# Altium integrated library Renesas Microprocessor SuperH.IntLib: 433 symbols (part 13 of 62)
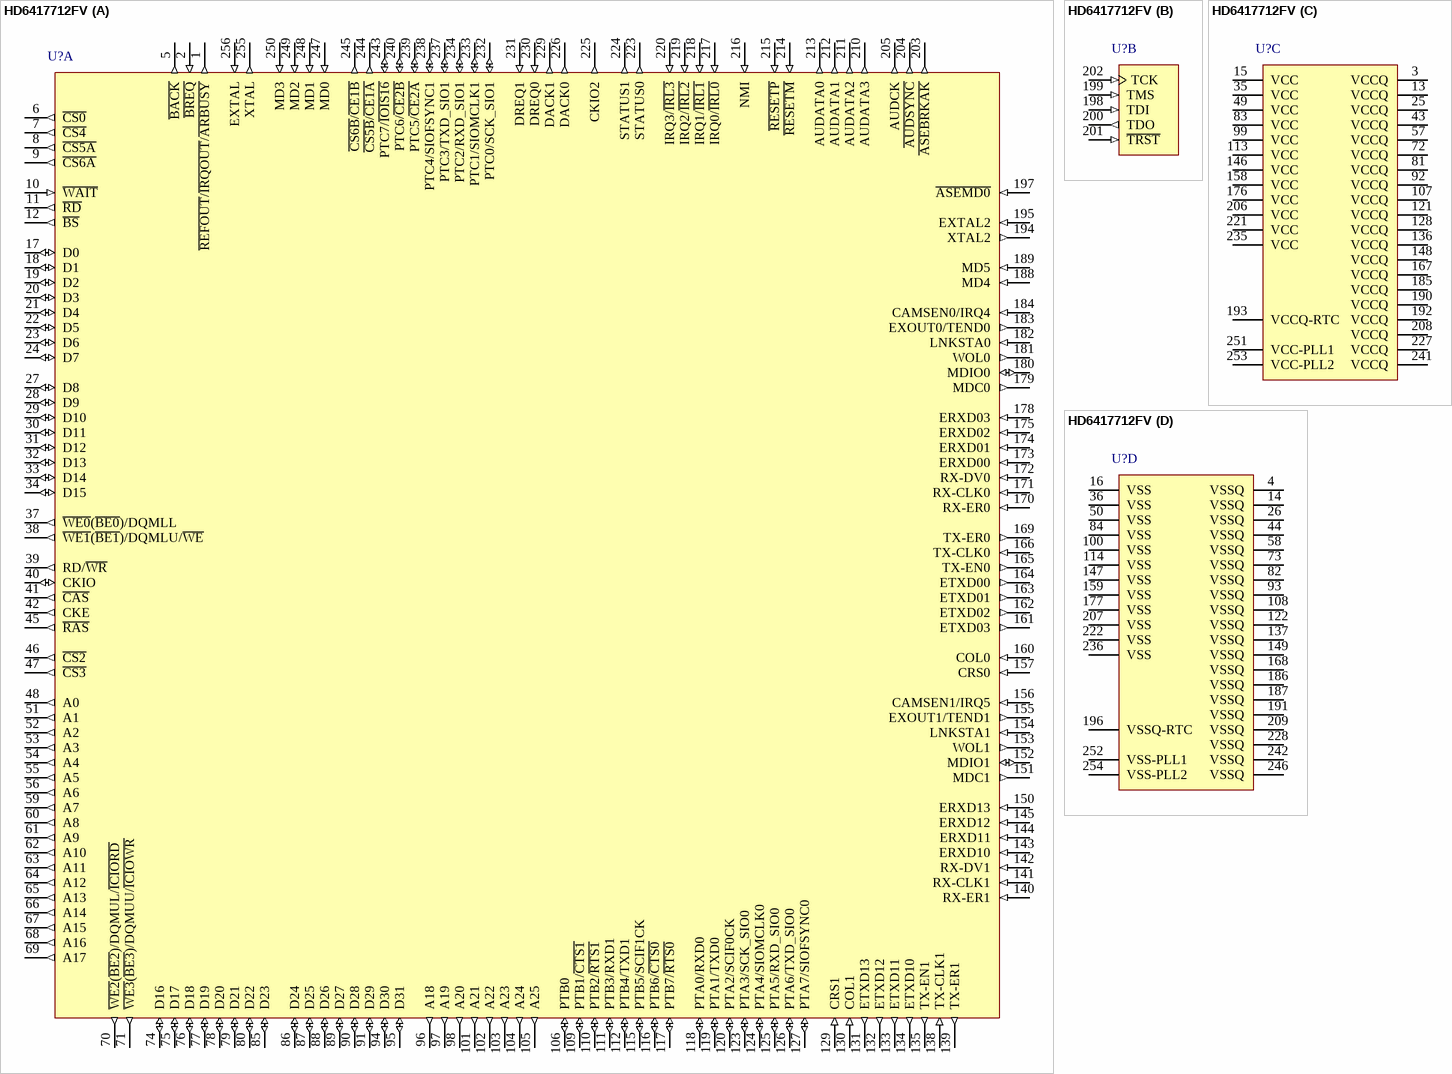
[diagram p288: symbol HD6417712FV]

## HD6417712FV
designator U?
32-Bit RISC Microcomputer, SH-Ether Series, SH3-DSP core, 200MHz, 16K RAM, 256-pin HQFP (Pb-Free), -20 to 75°C; Published: 28-Aug-2009; DatasheetVersion: Rev.1.00, Dec-2005; PackageVersion: Sep-2005; PackageReference: PRQP0256LA-B; Publisher: Altium Limited; PackageDescription: 256-Pin Plastic Quad Flat Pack, 28 x 28 x 3.2 mm Body, 0.4 mm Pitch; Supplier 1: Digi-Key; Supplier Part Number 1: HD6417712FV-ND; Code_JEITA: P-HQFP256-28x28-0.40; ComponentLink1Description: Manufacturer Link; ComponentLink1URL: http://www.renesas.com/fmwk.jsp?cnt=sh7710_root.jsp&fp=/products/mpumcu/superh_family/shether_series/sh7710_group/; ComponentLink2Description: Datasheet; ComponentLink2URL: http://documentation.renesas.com/eng/products/mpumcu/rej09b0269_sh7712hm.pdf; ComponentLink3Description: Packaging Specification; ComponentLink3URL: http://sg.renesas.com/media/products/common_info/package/pdf/ic/code/prqp0256la_b.pdf
footprint PRQP0256LA-B_N (Shrink QFP, 256-Leads, Body 28x28mm, Pitch 0.4mm, IPC Medium Density)
footprint PRQP0256LA-B_L (Shrink QFP, 256-Leads, Body 28x28mm, Pitch 0.4mm, IPC High Density)
footprint PRQP0256LA-B_M (Shrink QFP, 256-Leads, Body 28x28mm, Pitch 0.4mm, IPC Low Density)
part A pins: 1 ~{REFOUT}/~{IRQOUT}/~{ARBUSY} (out) "Bus release request output", 2 ~{BREQ} (in) "Bus request", 5 ~{BACK} (out) "Bus acknowledge", 6 ~{CS0} (out) "Chip select 0", 7 ~{CS4} (out) "Chip select 4", 8 ~{CS5A} (out) "Chip select 5 A", 9 ~{CS6A} (out) "Chip select 6 A", 10 ~{WAIT} (in) "Hardware wait request", 11 ~{RD} (out) "Read strobe", 12 ~{BS} (out) "Bus cycle start signal", 17 D0 (io) "Data bus", 18 D1 (io) "Data bus", 19 D2 (io) "Data bus", 20 D3 (io) "Data bus", 21 D4 (io) "Data bus", 22 D5 (io) "Data bus", 23 D6 (io) "Data bus", 24 D7 (io) "Data bus", 27 D8 (io) "Data bus", 28 D9 (io) "Data bus", 29 D10 (io) "Data bus", 30 D11 (io) "Data bus", 31 D12 (io) "Data bus", 32 D13 (io) "Data bus", 33 D14 (io) "Data bus", 34 D15 (io) "Data bus", 37 ~{WE0}(~{BE0})/DQMLL (out) "D7 to D0-select signal/DQM (SDRAM)", 38 ~{WE1}(~{BE1})/DQMLU/~{WE} (out) "D15 to D8-select signal/DQM (SDRAM)/PCMCIA write cycle strobe", 39 RD/~{WR} (out) "Read/write", 40 CKIO (io) "System clock I/O", 41 ~{CAS} (out) "CAS (SDRAM)", 42 CKE (out) "CK enable (SDRAM)", 45 ~{RAS} (out) "RAS (SDRAM)", 46 ~{CS2} (out) "Chip select 2", 47 ~{CS3} (out) "Chip select 3", 48 A0 (out) "Address bus", 51 A1 (out) "Address bus", 52 A2 (out) "Address bus", 53 A3 (out) "Address bus", 54 A4 (out) "Address bus", 55 A5 (out) "Address bus", 56 A6 (out) "Address bus", 59 A7 (out) "Address bus", 60 A8 (out) "Address bus", 61 A9 (out) "Address bus", 62 A10 (out) "Address bus", 63 A11 (out) "Address bus", 64 A12 (out) "Address bus", 65 A13 (out) "Address bus", 66 A14 (out) "Address bus", 67 A15 (out) "Address bus", 68 A16 (out) "Address bus", 69 A17 (out) "Address bus", 70 ~{WE2}(~{BE2})/DQMUL/~{ICIORD} (out) "D23 to D16-select signal/DQM (SDRAM)/PCMCIA I/O read", 71 ~{WE3}(~{BE3})/DQMUU/~{ICIOWR} (out) "D31 to D24-select signal/DQM (SDRAM)/PCMCIA I/O write", 74 D16 (io) "Data bus", 75 D17 (io) "Data bus", 76 D18 (io) "Data bus", 77 D19 (io) "Data bus", 78 D20 (io) "Data bus", 79 D21 (io) "Data bus", 80 D22 (io) "Data bus", 85 D23 (io) "Data bus", 86 D24 (io) "Data bus", 87 D25 (io) "Data bus", 88 D26 (io) "Data bus", 89 D27 (io) "Data bus", 90 D28 (io) "Data bus", 91 D29 (io) "Data bus", 94 D30 (io) "Data bus", 95 D31 (io) "Data bus", 96 A18 (out) "Address bus", 97 A19 (out) "Address bus", 98 A20 (out) "Address bus", 101 A21 (out) "Address bus", 102 A22 (out) "Address bus", 103 A23 (out) "Address bus", 104 A24 (out) "Address bus", 105 A25 (out) "Address bus", 106 PTB0 (io) "I/O port B", 109 PTB1/~{CTS1} (io) "I/O port B/SCIF1 transmit clear", 110 PTB2/~{RTS1} (io) "I/O port B/SCIF1 transmit request", 111 PTB3/RXD1 (io) "I/O port B/SCIF1 receive data", 112 PTB4/TXD1 (io) "I/O port B/SCIF1 transmit data", 115 PTB5/SCIF1CK (io) "I/O port B/SCIF1 serial clock", 116 PTB6/~{CTS0} (io) "I/O port B/SCIF0 transmit clear", 117 PTB7/~{RTS0} (io) "I/O port B/SCIF0 transmit request", 118 PTA0/RXD0 (io) "I/O port A/SCIF0 receive data", 119 PTA1/TXD0 (io) "I/O port A/SCIF0 transmit data", 120 PTA2/SCIF0CK (io) "I/O port A/SCIF0 serial clock", 123 PTA3/SCK_SIO0 (io) "I/O port A/SIOF0 communication clock", 124 PTA4/SIOMCLK0 (io) "I/O port A/SIOF0 clock input", 125 PTA5/RXD_SIO0 (io) "I/O port A/SIOF0 receive data", 126 PTA6/TXD_SIO0 (io) "I/O port A/SIOF0 transmit data", 127 PTA7/SIOFSYNC0 (io) "I/O port A/SIOF0 frame sync", 129 CRS1 (in) "MAC1 carrier detection", 130 COL1 (in) "MAC1 collision detection", 131 ETXD13 (out) "MAC1 transmit data 3", 132 ETXD12 (out) "MAC1 transmit data 2", 133 ETXD11 (out) "MAC1 transmit data 1", 134 ETXD10 (out) "MAC1 transmit data 0", 135 TX-EN1 (out) "MAC1 transmit enable", 138 TX-CLK1 (in) "MAC1 transmit clock", 139 TX-ER1 (out) "MAC1 transmit error", 140 RX-ER1 (in) "MAC1 receive error", 141 RX-CLK1 (in) "MAC1 receive clock", 142 RX-DV1 (in) "MAC1 receive data valid", 143 ERXD10 (in) "MAC1 receive data 0", 144 ERXD11 (in) "MAC1 receive data 1", 145 ERXD12 (in) "MAC1 receive data 2", 150 ERXD13 (in) "MAC1 receive data 3", 151 MDC1 (out) "MAC1 management data clock", 152 MDIO1 (io) "MAC1 management data I/O", 153 WOL1 (out) "MAC1 Wake-On-LAN", 154 LNKSTA1 (in) "MAC1 link status", 155 EXOUT1/TEND1 (out) "MAC1 general-purpose external output/DMA transfer end notification 1", 156 CAMSEN1/IRQ5 (in) "MAC1 CAM input/external interrupt request", 157 CRS0 (in) "MAC0 carrier detection", 160 COL0 (in) "MAC0 collision detection", 161 ETXD03 (out) "MAC0 transmit data 3", 162 ETXD02 (out) "MAC0 transmit data 2", 163 ETXD01 (out) "MAC0 transmit data 1", 164 ETXD00 (out) "MAC0 transmit data 0", 165 TX-EN0 (out) "MAC0 transmit enable", 166 TX-CLK0 (in) "MAC0 transmit clock", 169 TX-ER0 (out) "MAC0 transmit error", 170 RX-ER0 (in) "MAC0 receive error", 171 RX-CLK0 (in) "MAC0 receive clock", 172 RX-DV0 (in) "MAC0 receive data valid", 173 ERXD00 (in) "MAC0 receive data 0", 174 ERXD01 (in) "MAC0 receive data 1", 175 ERXD02 (in) "MAC0 receive data 2", 178 ERXD03 (in) "MAC0 receive data 3", 179 MDC0 (out) "MAC0 management data clock", 180 MDIO0 (io) "MAC0 management data I/O", 181 WOL0 (out) "MAC0 Wake-On-LAN", 182 LNKSTA0 (in) "MAC0 link status", 183 EXOUT0/TEND0 (out) "MAC0 general-purpose external output/DMA transfer end notification 0", 184 CAMSEN0/IRQ4 (in) "MAC0 CAM input/external interrupt request", 188 MD4 (in) "Specifies area 0 bus width", 189 MD5 (in) "Endian select", 194 XTAL2 (out) "On-chip RTC crystal oscillator pin", 195 EXTAL2 (in) "On-chip RTC crystal oscillator pin", 197 ~{ASEMD0} (in) "ASE mode", 203 ~{ASEBRKAK} (out) "ASE break acknowledge", 204 ~{AUDSYNC} (out) "AUD synchronous", 205 AUDCK (out) "AUD clock", 210 AUDATA3 (out) "AUD data", 211 AUDATA2 (out) "AUD data", 212 AUDATA1 (out) "AUD data", 213 AUDATA0 (out) "AUD data", 214 ~{RESETM} (in) "Manual reset request", 215 ~{RESETP} (in) "Power-on reset request", 216 NMI (in) "Non-maskable interrupt request", 217 IRQ0/~{IRL0} (in) "External interrupt request", 218 IRQ1/~{IRL1} (in) "External interrupt request", 219 IRQ2/~{IRL2} (in) "External interrupt request", 220 IRQ3/~{IRL3} (in) "External interrupt request", 223 STATUS0 (out) "Processor status", 224 STATUS1 (out) "Processor status", 225 CKIO2 (out) "System clock output", 226 DACK0 (out) "DMA acknowledge 0", 229 DACK1 (out) "DMA acknowledge 1", 230 DREQ0 (in) "DMA request 0", 231 DREQ1 (in) "DMA request 1", 232 PTC0/SCK_SIO1 (io) "I/O port C/SIOF1 communication clock", 233 PTC1/SIOMCLK1 (io) "I/O port C/SIOF1 clock input", 234 PTC2/RXD_SIO1 (io) "I/O port C/SIOF1 receive data", 237 PTC3/TXD_SIO1 (io) "I/O port C/SIOF1 transmit data", 238 PTC4/SIOFSYNC1 (io) "I/O port C/SIOF1 frame sync", 239 PTC5/~{CE2A} (io) "I/O port C/area 5 PCMCIA card enable", 240 PTC6/~{CE2B} (io) "I/O port C/area 6 PCMCIA card enable", 243 PTC7/~{IOIS16} (io) "I/O port C/PCMCIA 16-bit I/O select", 244 ~{CS5B}/~{CE1A} (out) "Chip select 5B/area 5 PCMCIA card enable", 245 ~{CS6B}/~{CE1B} (out) "Chip select 6B/area 6 PCMCIA card enable", 247 MD0 (in) "Clock mode select", 248 MD1 (in) "Clock mode select", 249 MD2 (in) "Clock mode select", 250 MD3 (in) "Area 0 bus width", 255 XTAL (out) "Clock oscillator pin", 256 EXTAL (in) "External clock/crystal oscillator pin"
part B pins: 198 TDI (in) "Test data input", 199 TMS (in) "Test mode select", 200 TDO (out) "Test data output", 201 ~{TRST} (in) "Test reset", 202 TCK (in) "Test clock"
part C pins: 3 VCCQ (power) "I/O power supply (3.3V)", 13 VCCQ (power) "I/O power supply (3.3V)", 15 VCC (power) "Internal power supply (1.5V)", 25 VCCQ (power) "I/O power supply (3.3V)", 35 VCC (power) "Internal power supply (1.5V)", 43 VCCQ (power) "I/O power supply (3.3V)", 49 VCC (power) "Internal power supply (1.5V)", 57 VCCQ (power) "I/O power supply (3.3V)", 72 VCCQ (power) "I/O power supply (3.3V)", 81 VCCQ (power) "I/O power supply (3.3V)", 83 VCC (power) "Internal power supply (1.5V)", 92 VCCQ (power) "I/O power supply (3.3V)", 99 VCC (power) "Internal power supply (1.5V)", 107 VCCQ (power) "I/O power supply (3.3V)", 113 VCC (power) "Internal power supply (1.5V)", 121 VCCQ (power) "I/O power supply (3.3V)", 128 VCCQ (power) "I/O power supply (3.3V)", 136 VCCQ (power) "I/O power supply (3.3V)", 146 VCC (power) "Internal power supply (1.5V)", 148 VCCQ (power) "I/O power supply (3.3V)", 158 VCC (power) "Internal power supply (1.5V)", 167 VCCQ (power) "I/O power supply (3.3V)", 176 VCC (power) "Internal power supply (1.5V)", 185 VCCQ (power) "I/O power supply (3.3V)", 190 VCCQ (power) "I/O power supply (3.3V)", 192 VCCQ (power) "I/O power supply (3.3V)", 193 VCCQ-RTC (power) "RTC oscillator power supply (3.3V)", 206 VCC (power) "Internal power supply (1.5V)", 208 VCCQ (power) "power supply (3.3V)", 221 VCC (power) "Internal power supply (1.5V)", 227 VCCQ (power) "I/O power supply (3.3V)", 235 VCC (power) "Internal power supply (1.5V)", 241 VCCQ (power) "I/O power supply (3.3V)", 251 VCC-PLL1 (power) "PLL1 power supply (1.5V)", 253 VCC-PLL2 (power) "PLL2 power supply (1.5V)"
part D pins: 4 VSSQ (power) "I/O power supply (0V)", 14 VSSQ (power) "I/O power supply (0V)", 16 VSS (power) "Internal power supply (0V)", 26 VSSQ (power) "I/O power supply (0V)", 36 VSS (power) "Internal power supply (0V)", 44 VSSQ (power) "I/O power supply (0V)", 50 VSS (power) "Internal power supply (0V)", 58 VSSQ (power) "I/O power supply (0V)", 73 VSSQ (power) "I/O power supply (0V)", 82 VSSQ (power) "I/O power supply (0V)", 84 VSS (power) "Internal power supply (0V)", 93 VSSQ (power) "I/O power supply (0V)", 100 VSS (power) "Internal power supply (0V)", 108 VSSQ (power) "I/O power supply (0V)", 114 VSS (power) "Internal power supply (0V)", 122 VSSQ (power) "I/O power supply (0V)", 137 VSSQ (power) "I/O power supply (0V)", 147 VSS (power) "Internal power supply (0V)", 149 VSSQ (power) "I/O power supply (0V)", 159 VSS (power) "Internal power supply (0V)", 168 VSSQ (power) "I/O power supply (0V)", 177 VSS (power) "Internal power supply (0V)", 186 VSSQ (power) "I/O power supply (0V)", 187 VSSQ (power) "I/O power supply (0V)", 191 VSSQ (power) "I/O power supply (0V)", 196 VSSQ-RTC (power) "RTC oscillator power supply (0V)", 207 VSS (power) "Internal power supply (0V)", 209 VSSQ (power) "power supply (0V)", 222 VSS (power) "Internal power supply (0V)", 228 VSSQ (power) "I/O power supply (0V)", 236 VSS (power) "Internal power supply (0V)", 242 VSSQ (power) "I/O power supply (0V)", 246 VSSQ (power) "I/O power supply (0V)", 252 VSS-PLL1 (power) "PLL1 power supply (0V)", 254 VSS-PLL2 (power) "PLL2 power supply (0V)"

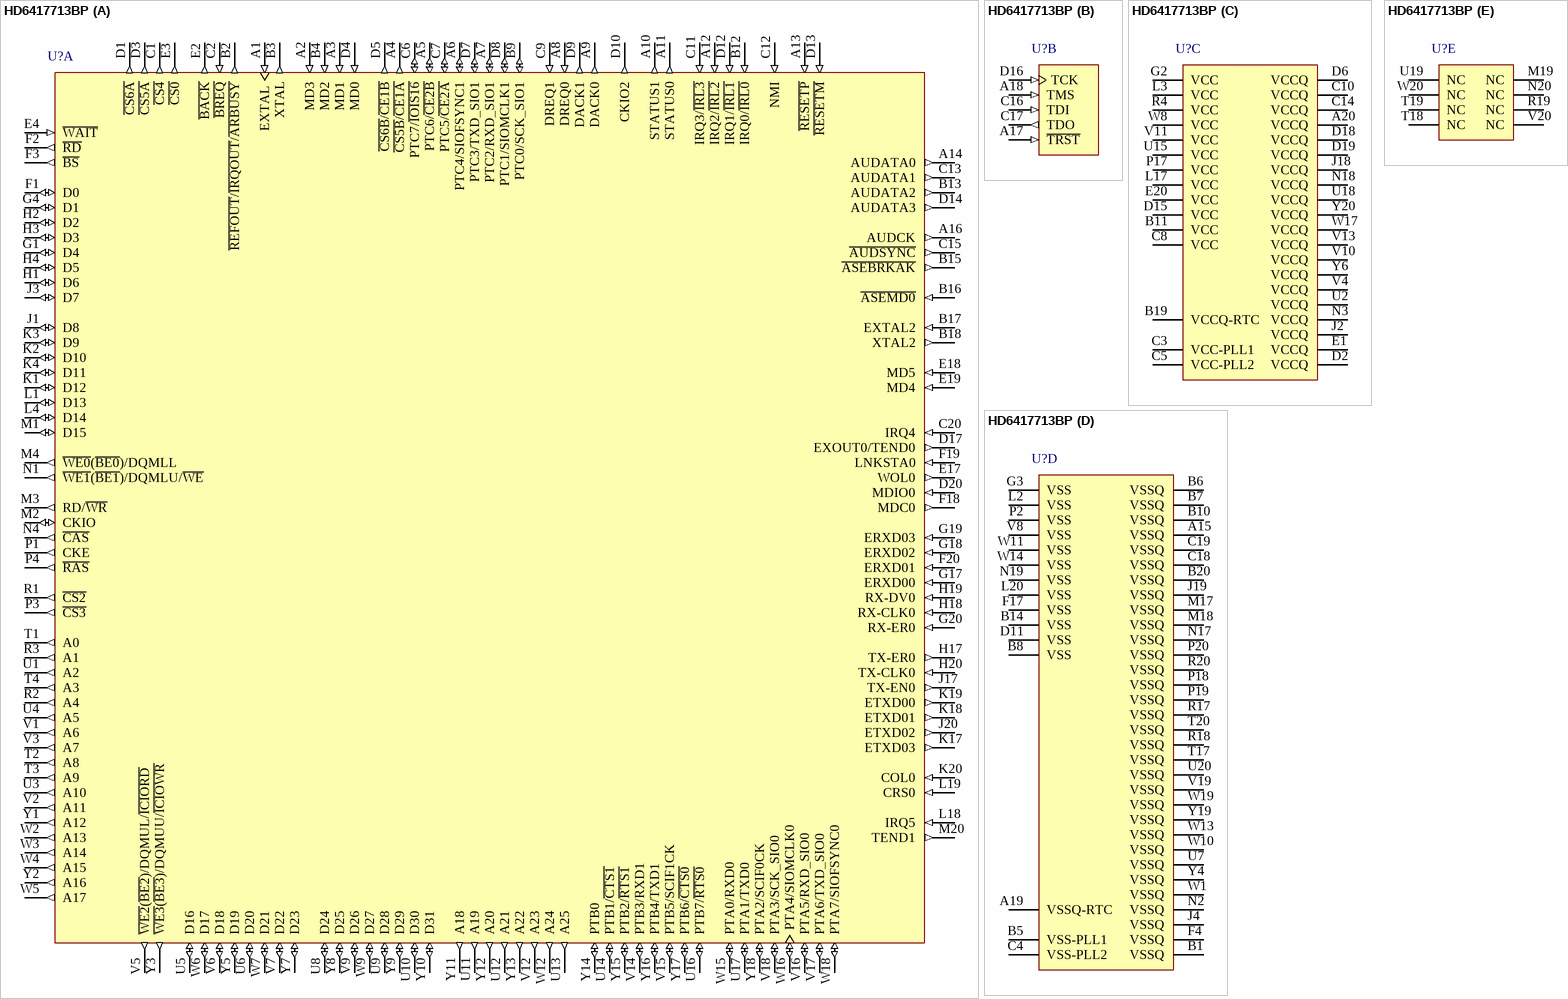
[diagram p47: symbol HD6417713BP]

## HD6417713BP
designator U?
32-Bit RISC Microcomputer, SH-Ether Series, SH3-DSP core, 200MHz, 16K RAM, 256-pin CSP, -20 to 75°C; Published: 28-Aug-2009; DatasheetVersion: Rev.1.50, Aug-2006; PackageVersion: Sep-2008; PackageReference: PLBG0256GA-A; Publisher: Altium Limited; PackageDescription: 256-Ball Plastic Low Profile Fine-Pitch BGA, 17 x 17 mm Body, 0.8 mm Pitch; Code_JEITA: P-LFBGA256-17x17-0.80; ComponentLink1Description: Manufacturer Link; ComponentLink1URL: http://www.renesas.com/fmwk.jsp?cnt=sh7710_root.jsp&fp=/products/mpumcu/superh_family/shether_series/sh7710_group/; ComponentLink2Description: Datasheet; ComponentLink2URL: http://documentation.renesas.com/eng/products/mpumcu/rej09b0288_sh7713hm.pdf; ComponentLink3Description: Packaging Specification; ComponentLink3URL: http://sg.renesas.com/media/products/common_info/package/pdf/ic/code/plbg0256ga_a.pdf
footprint PLBG0256GA-A (BGA, 256-Leads, Body 17x17mm, Pitch 0.8mm)
part A pins: A1 EXTAL (in) "External clock/crystal oscillator pin", A2 MD3 (in) "Area 0 bus width", A3 MD1 (in) "Clock mode select", A4 ~{CS5B}/~{CE1A} (out) "Chip select 5B/area 5 PCMCIA card enable", A5 PTC6/~{CE2B} (io) "I/O port C/area 6 PCMCIA card enable", A6 PTC4/SIOFSYNC1 (io) "I/O port C/SIOF1 frame sync", A7 PTC2/RXD_SIO1 (io) "I/O port C/SIOF1 receive data", A8 DREQ0 (in) "DMA request 0", A9 DACK0 (out) "DMA acknowledge 0", A10 STATUS1 (out) "Processor status", A11 STATUS0 (out) "Processor status", A12 IRQ2/~{IRL2} (in) "External interrupt request", A13 ~{RESETP} (in) "Power-on reset request", A14 AUDATA0 (out) "AUD data", A16 AUDCK (out) "AUD clock", B2 ~{REFOUT}/~{IRQOUT}/~{ARBUSY} (out) "Bus release request output", B3 XTAL (out) "Clock oscillator pin", B4 MD2 (in) "Clock mode select", B9 PTC0/SCK_SIO1 (io) "I/O port C/SIOF1 communication clock", B12 IRQ0/~{IRL0} (in) "External interrupt request", B13 AUDATA2 (out) "AUD data", B15 ~{ASEBRKAK} (out) "ASE break acknowledge", B16 ~{ASEMD0} (in) "ASE mode", B17 EXTAL2 (in) "On-chip RTC crystal oscillator pin", B18 XTAL2 (out) "On-chip RTC crystal oscillator pin", C1 ~{CS4} (out) "Chip select 4", C2 ~{BREQ} (in) "Bus request", C6 PTC7/~{IOIS16} (io) "I/O port C/PCMCIA 16-bit I/O select", C7 PTC5/~{CE2A} (io) "I/O port C/area 5 PCMCIA card enable", C9 DREQ1 (in) "DMA request 1", C11 IRQ3/~{IRL3} (in) "External interrupt request", C12 NMI (in) "Non-maskable interrupt request", C13 AUDATA1 (out) "AUD data", C15 ~{AUDSYNC} (out) "AUD synchronous", C20 IRQ4 (in) "External interrupt request", D1 ~{CS6A} (out) "Chip select 6 A", D3 ~{CS5A} (out) "Chip select 5 A", D4 MD0 (in) "Clock mode select", D5 ~{CS6B}/~{CE1B} (out) "Chip select 6B/area 6 PCMCIA card enable", D7 PTC3/TXD_SIO1 (io) "I/O port C/SIOF1 transmit data", D8 PTC1/SIOMCLK1 (io) "I/O port C/SIOF1 clock input", D9 DACK1 (out) "DMA acknowledge 1", D10 CKIO2 (out) "System clock output", D12 IRQ1/~{IRL1} (in) "External interrupt request", D13 ~{RESETM} (in) "Manual reset request", D14 AUDATA3 (out) "AUD data", D17 EXOUT0/TEND0 (out) "MAC general-purpose external output/DMA transfer end notification 0", D20 MDIO0 (in) "MAC management data I/O", E2 ~{BACK} (out) "Bus acknowledge", E3 ~{CS0} (out) "Chip select 0", E4 ~{WAIT} (in) "Hardware wait request", E17 WOL0 (out) "MAC Wake-On-LAN", E18 MD5 (in) "Endian select", E19 MD4 (in) "Specifies area 0 bus width", F1 D0 (io) "Data bus", F2 ~{RD} (out) "Read strobe", F3 ~{BS} (out) "Bus cycle start signal", F18 MDC0 (out) "MAC management data clock", F19 LNKSTA0 (in) "MAC link status", F20 ERXD01 (in) "MAC receive data 1", G1 D4 (io) "Data bus", G4 D1 (io) "Data bus", G17 ERXD00 (in) "MAC receive data 0", G18 ERXD02 (in) "MAC receive data 2", G19 ERXD03 (in) "MAC receive data 3", G20 RX-ER0 (in) "MAC receive error", H1 D6 (io) "Data bus", H2 D2 (io) "Data bus", H3 D3 (io) "Data bus", H4 D5 (io) "Data bus", H17 TX-ER0 (out) "MAC transmit error", H18 RX-CLK0 (in) "MAC receive clock", H19 RX-DV0 (in) "MAC receive data valid", H20 TX-CLK0 (in) "MAC transmit clock", J1 D8 (io) "Data bus", J3 D7 (io) "Data bus", J17 TX-EN0 (out) "MAC transmit enable", J20 ETXD02 (out) "MAC transmit data 2", K1 D12 (io) "Data bus", K2 D10 (io) "Data bus", K3 D9 (io) "Data bus", K4 D11 (io) "Data bus", K17 ETXD03 (out) "MAC transmit data 3", K18 ETXD01 (out) "MAC transmit data 1", K19 ETXD00 (out) "MAC transmit data 0", K20 COL0 (in) "MAC collision detection", L1 D13 (io) "Data bus", L4 D14 (io) "Data bus", L18 IRQ5 (in) "External interrupt request", L19 CRS0 (in) "MAC carrier detection", M1 D15 (io) "Data bus", M2 CKIO (io) "System clock I/O", M3 RD/~{WR} (out) "Read/write", M4 ~{WE0}(~{BE0})/DQMLL (out) "D7 to D0-select signal/DQM (SDRAM)", M20 TEND1 (out) "DMA transfer end notification 1", N1 ~{WE1}(~{BE1})/DQMLU/~{WE} (out) "D15 to D8-select signal/DQM (SDRAM)/PCMCIA write cycle strobe", N4 ~{CAS} (out) "CAS (SDRAM)", P1 CKE (out) "CK enable (SDRAM)", P3 ~{CS3} (out) "Chip select 3", P4 ~{RAS} (out) "RAS (SDRAM)", R1 ~{CS2} (out) "Chip select 2", R2 A4 (out) "Address bus", R3 A1 (out) "Address bus", T1 A0 (out) "Address bus", T2 A8 (out) "Address bus", T3 A9 (out) "Address bus", T4 A3 (out) "Address bus", U1 A2 (out) "Address bus", U3 A10 (out) "Address bus", U4 A5 (out) "Address bus", U5 D16 (io) "Data bus", U6 D20 (io) "Data bus", U8 D24 (io) "Data bus", U9 D28 (io) "Data bus", U10 D30 (io) "Data bus", U11 A19 (out) "Address bus", U12 A21 (out) "Address bus", U13 A25 (out) "Address bus", U14 PTB1/~{CTS1} (io) "I/O port B/SCIF1 transmit clear", U16 PTB7/~{RTS0} (io) "I/O port B/SCIF0 transmit request", U17 PTA1/TXD0 (io) "I/O port A/SCIF0 transmit data", V1 A6 (out) "Address bus", V2 A11 (out) "Address bus", V3 A7 (out) "Address bus", V5 ~{WE2}(~{BE2})/DQMUL/~{ICIORD} (out) "D23 to D16-select signal/DQM (SDRAM)/PCMCIA I/O read", V6 D18 (io) "Data bus", V7 D22 (io) "Data bus", V9 D26 (io) "Data bus", V12 A23 (out) "Address bus", V14 PTB3/RXD1 (io) "I/O port B/SCIF1 receive data", V15 PTB5/SCIF1CK (io) "I/O port B/SCIF1 serial clock", V16 PTA5/RXD_SIO0 (io) "I/O port A/SIOF0 receive data", V17 PTA6/TXD_SIO0 (io) "I/O port A/SIOF0 transmit data", V18 PTA3/SCK_SIO0 (io) "I/O port A/SIOF0 communication clock", W2 A13 (out) "Address bus", W3 A14 (out) "Address bus", W4 A15 (out) "Address bus", W5 A17 (out) "Address bus", W6 D17 (io) "Data bus", W7 D21 (io) "Data bus", W9 D27 (io) "Data bus", W12 A24 (out) "Address bus", W15 PTA0/RXD0 (io) "I/O port A/SCIF0 receive data", W16 PTA4/SIOMCLK0 (io) "I/O port A/SIOF0 clock input", W18 PTA7/SIOFSYNC0 (io) "I/O port A/SIOF0 frame sync", Y1 A12 (out) "Address bus", Y2 A16 (out) "Address bus", Y3 ~{WE3}(~{BE3})/DQMUU/~{ICIOWR} (out) "D31 to D24-select signal/DQM (SDRAM)/PCMCIA I/O write", Y5 D19 (io) "Data bus", Y7 D23 (io) "Data bus", Y8 D25 (io) "Data bus", Y9 D29 (io) "Data bus", Y10 D31 (io) "Data bus", Y11 A18 (out) "Address bus", Y12 A20 (out) "Address bus", Y13 A22 (out) "Address bus", Y14 PTB0 (io) "I/O port B", Y15 PTB2/~{RTS1} (io) "I/O port B/SCIF1 transmit request", Y16 PTB4/TXD1 (io) "I/O port B/SCIF1 transmit data", Y17 PTB6/~{CTS0} (io) "I/O port B/SCIF0 transmit clear", Y18 PTA2/SCIF0CK (io) "I/O port A/SCIF0 serial clock"
part B pins: A17 ~{TRST} (in) "Test reset", A18 TMS (in) "Test mode select", C16 TDI (in) "Test data input", C17 TDO (out) "Test data output", D16 TCK (in) "Test clock"
part C pins: A20 VCCQ (power) "I/O power supply (3.3V)", B11 VCC (power) "Internal power supply (1.5V)", B19 VCCQ-RTC (power) "RTC oscillator power supply (3.3V)", C3 VCC-PLL1 (power) "PLL1 power supply (1.5V)", C5 VCC-PLL2 (power) "PLL2 power supply (1.5V)", C8 VCC (power) "Internal power supply (1.5V)", C10 VCCQ (power) "I/O power supply (3.3V)", C14 VCCQ (power) "I/O power supply (3.3V)", D2 VCCQ (power) "I/O power supply (3.3V)", D6 VCCQ (power) "I/O power supply (3.3V)", D15 VCC (power) "Internal power supply (1.5V)", D18 VCCQ (power) "I/O power supply (3.3V)", D19 VCCQ (power) "I/O power supply (3.3V)", E1 VCCQ (power) "I/O power supply (3.3V)", E20 VCC (power) "Internal power supply (1.5V)", G2 VCC (power) "Internal power supply (1.5V)", J2 VCCQ (power) "I/O power supply (3.3V)", J18 VCCQ (power) "I/O power supply (3.3V)", L3 VCC (power) "Internal power supply (1.5V)", L17 VCC (power) "Internal power supply (1.5V)", N3 VCCQ (power) "I/O power supply (3.3V)", N18 VCCQ (power) "I/O power supply (3.3V)", P17 VCC (power) "Internal power supply (1.5V)", R4 VCC (power) "Internal power supply (1.5V)", U2 VCCQ (power) "I/O power supply (3.3V)", U15 VCC (power) "Internal power supply (1.5V)", U18 VCCQ (power) "I/O power supply (3.3V)", V4 VCCQ (power) "I/O power supply (3.3V)", V10 VCCQ (power) "I/O power supply (3.3V)", V11 VCC (power) "Internal power supply (1.5V)", V13 VCCQ (power) "I/O power supply (3.3V)", W8 VCC (power) "Internal power supply (1.5V)", W17 VCCQ (power) "I/O power supply (3.3V)", Y6 VCCQ (power) "I/O power supply (3.3V)", Y20 VCCQ (power) "I/O power supply (3.3V)"
part D pins: A15 VSSQ (power) "I/O power supply (0V)", A19 VSSQ-RTC (power) "RTC oscillator power supply (0V)", B1 VSSQ (power) "I/O power supply (0V)", B5 VSS-PLL1 (power) "PLL1 power supply (0V)", B6 VSSQ (power) "I/O power supply (0V)", B7 VSSQ (power) "I/O power supply (0V)", B8 VSS (power) "Internal power supply (0V)", B10 VSSQ (power) "I/O power supply (0V)", B14 VSS (power) "Internal power supply (0V)", B20 VSSQ (power) "I/O power supply (0V)", C4 VSS-PLL2 (power) "PLL2 power supply (0V)", C18 VSSQ (power) "I/O power supply (0V)", C19 VSSQ (power) "I/O power supply (0V)", D11 VSS (power) "Internal power supply (0V)", F4 VSSQ (power) "I/O power supply (0V)", F17 VSS (power) "Internal power supply (0V)", G3 VSS (power) "Internal power supply (0V)", J4 VSSQ (power) "I/O power supply (0V)", J19 VSSQ (power) "I/O power supply (0V)", L2 VSS (power) "Internal power supply (0V)", L20 VSS (power) "Internal power supply (0V)", M17 VSSQ (power) "I/O power supply (0V)", M18 VSSQ (power) "I/O power supply (0V)", N2 VSSQ (power) "I/O power supply (0V)", N17 VSSQ (power) "I/O power supply (0V)", N19 VSS (power) "Internal power supply (0V)", P2 VSS (power) "Internal power supply (0V)", P18 VSSQ (power) "I/O power supply (0V)", P19 VSSQ (power) "I/O power supply (0V)", P20 VSSQ (power) "I/O power supply (0V)", R17 VSSQ (power) "I/O power supply (0V)", R18 VSSQ (power) "I/O power supply (0V)", R20 VSSQ (power) "I/O power supply (0V)", T17 VSSQ (power) "I/O power supply (0V)", T20 VSSQ (power) "I/O power supply (0V)", U7 VSSQ (power) "I/O power supply (0V)", U20 VSSQ (power) "I/O power supply (0V)", V8 VSS (power) "Internal power supply (0V)", V19 VSSQ (power) "I/O power supply (0V)", W1 VSSQ (power) "I/O power supply (0V)", W10 VSSQ (power) "I/O power supply (0V)", W11 VSS (power) "Internal power supply (0V)", W13 VSSQ (power) "I/O power supply (0V)", W14 VSS (power) "Internal power supply (0V)", W19 VSSQ (power) "I/O power supply (0V)", Y4 VSSQ (power) "I/O power supply (0V)", Y19 VSSQ (power) "I/O power supply (0V)"
part E pins: M19 NC "Not Connected", N20 NC "Not Connected", R19 NC "Not Connected", T18 NC "Not Connected", T19 NC "Not Connected", U19 NC "Not Connected", V20 NC "Not Connected", W20 NC "Not Connected"

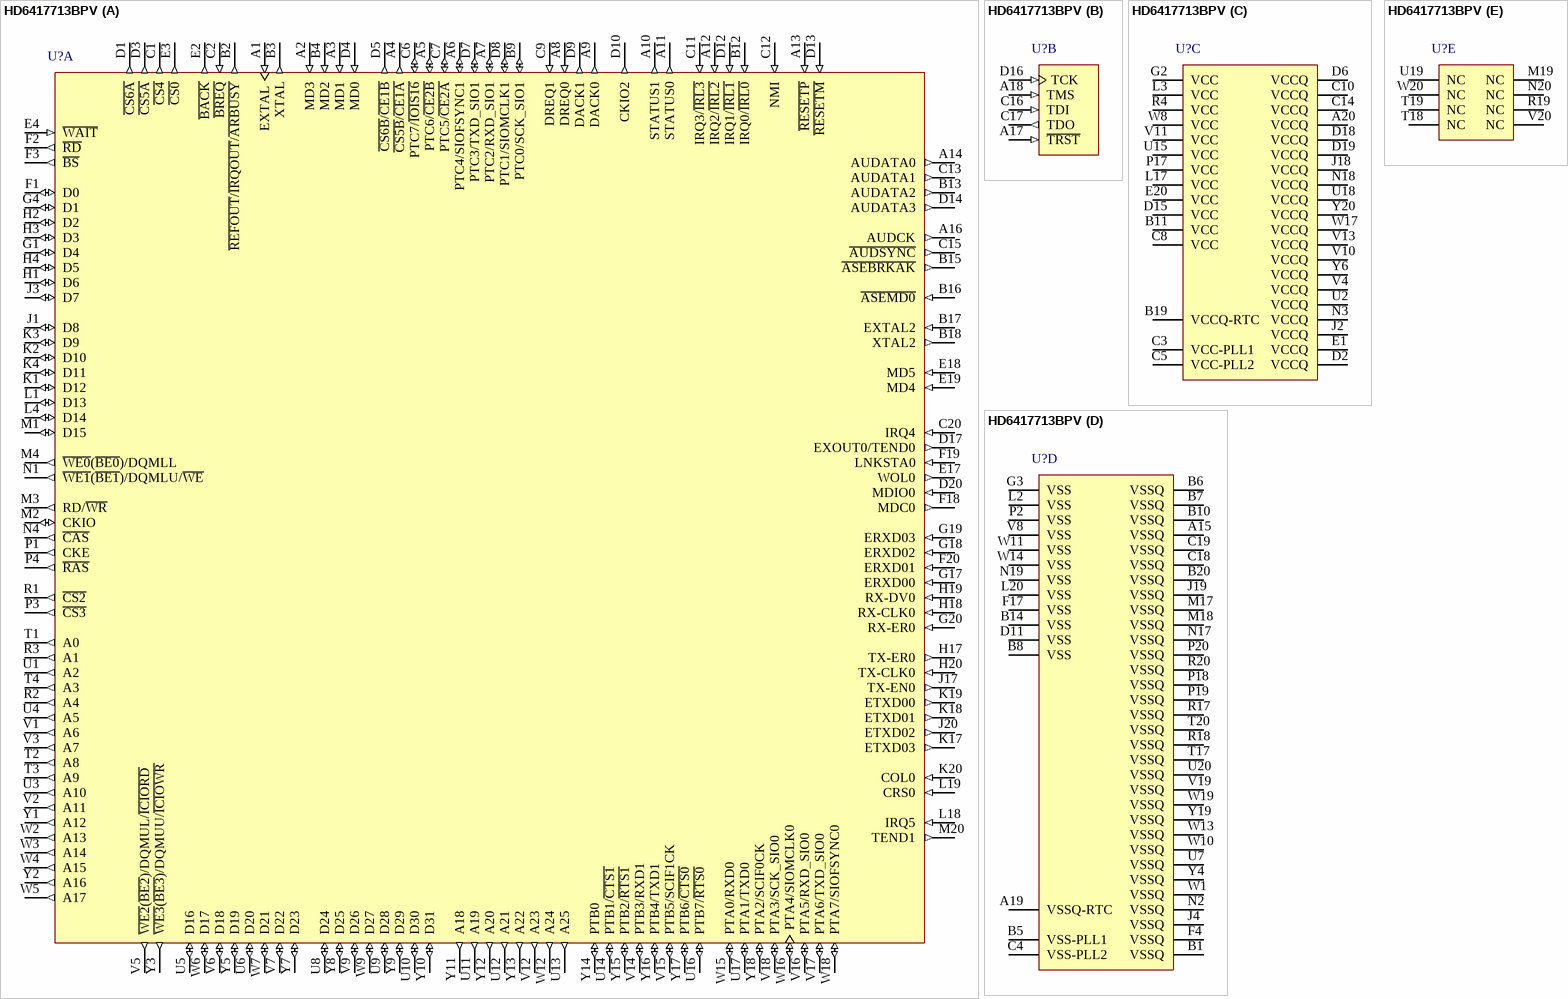
[diagram p48: symbol HD6417713BPV]

## HD6417713BPV
designator U?
32-Bit RISC Microcomputer, SH-Ether Series, SH3-DSP core, 200MHz, 16K RAM, 256-pin CSP (Pb-Free), -20 to 75°C; Published: 28-Aug-2009; DatasheetVersion: Rev.1.50, Aug-2006; PackageVersion: Sep-2008; PackageReference: PLBG0256GA-A; Publisher: Altium Limited; PackageDescription: 256-Ball Plastic Low Profile Fine-Pitch BGA, 17 x 17 mm Body, 0.8 mm Pitch; Code_JEITA: P-LFBGA256-17x17-0.80; ComponentLink1Description: Manufacturer Link; ComponentLink1URL: http://www.renesas.com/fmwk.jsp?cnt=sh7710_root.jsp&fp=/products/mpumcu/superh_family/shether_series/sh7710_group/; ComponentLink2Description: Datasheet; ComponentLink2URL: http://documentation.renesas.com/eng/products/mpumcu/rej09b0288_sh7713hm.pdf; ComponentLink3Description: Packaging Specification; ComponentLink3URL: http://sg.renesas.com/media/products/common_info/package/pdf/ic/code/plbg0256ga_a.pdf
footprint PLBG0256GA-A (BGA, 256-Leads, Body 17x17mm, Pitch 0.8mm)
part A pins: A1 EXTAL (in) "External clock/crystal oscillator pin", A2 MD3 (in) "Area 0 bus width", A3 MD1 (in) "Clock mode select", A4 ~{CS5B}/~{CE1A} (out) "Chip select 5B/area 5 PCMCIA card enable", A5 PTC6/~{CE2B} (io) "I/O port C/area 6 PCMCIA card enable", A6 PTC4/SIOFSYNC1 (io) "I/O port C/SIOF1 frame sync", A7 PTC2/RXD_SIO1 (io) "I/O port C/SIOF1 receive data", A8 DREQ0 (in) "DMA request 0", A9 DACK0 (out) "DMA acknowledge 0", A10 STATUS1 (out) "Processor status", A11 STATUS0 (out) "Processor status", A12 IRQ2/~{IRL2} (in) "External interrupt request", A13 ~{RESETP} (in) "Power-on reset request", A14 AUDATA0 (out) "AUD data", A16 AUDCK (out) "AUD clock", B2 ~{REFOUT}/~{IRQOUT}/~{ARBUSY} (out) "Bus release request output", B3 XTAL (out) "Clock oscillator pin", B4 MD2 (in) "Clock mode select", B9 PTC0/SCK_SIO1 (io) "I/O port C/SIOF1 communication clock", B12 IRQ0/~{IRL0} (in) "External interrupt request", B13 AUDATA2 (out) "AUD data", B15 ~{ASEBRKAK} (out) "ASE break acknowledge", B16 ~{ASEMD0} (in) "ASE mode", B17 EXTAL2 (in) "On-chip RTC crystal oscillator pin", B18 XTAL2 (out) "On-chip RTC crystal oscillator pin", C1 ~{CS4} (out) "Chip select 4", C2 ~{BREQ} (in) "Bus request", C6 PTC7/~{IOIS16} (io) "I/O port C/PCMCIA 16-bit I/O select", C7 PTC5/~{CE2A} (io) "I/O port C/area 5 PCMCIA card enable", C9 DREQ1 (in) "DMA request 1", C11 IRQ3/~{IRL3} (in) "External interrupt request", C12 NMI (in) "Non-maskable interrupt request", C13 AUDATA1 (out) "AUD data", C15 ~{AUDSYNC} (out) "AUD synchronous", C20 IRQ4 (in) "External interrupt request", D1 ~{CS6A} (out) "Chip select 6 A", D3 ~{CS5A} (out) "Chip select 5 A", D4 MD0 (in) "Clock mode select", D5 ~{CS6B}/~{CE1B} (out) "Chip select 6B/area 6 PCMCIA card enable", D7 PTC3/TXD_SIO1 (io) "I/O port C/SIOF1 transmit data", D8 PTC1/SIOMCLK1 (io) "I/O port C/SIOF1 clock input", D9 DACK1 (out) "DMA acknowledge 1", D10 CKIO2 (out) "System clock output", D12 IRQ1/~{IRL1} (in) "External interrupt request", D13 ~{RESETM} (in) "Manual reset request", D14 AUDATA3 (out) "AUD data", D17 EXOUT0/TEND0 (out) "MAC general-purpose external output/DMA transfer end notification 0", D20 MDIO0 (in) "MAC management data I/O", E2 ~{BACK} (out) "Bus acknowledge", E3 ~{CS0} (out) "Chip select 0", E4 ~{WAIT} (in) "Hardware wait request", E17 WOL0 (out) "MAC Wake-On-LAN", E18 MD5 (in) "Endian select", E19 MD4 (in) "Specifies area 0 bus width", F1 D0 (io) "Data bus", F2 ~{RD} (out) "Read strobe", F3 ~{BS} (out) "Bus cycle start signal", F18 MDC0 (out) "MAC management data clock", F19 LNKSTA0 (in) "MAC link status", F20 ERXD01 (in) "MAC receive data 1", G1 D4 (io) "Data bus", G4 D1 (io) "Data bus", G17 ERXD00 (in) "MAC receive data 0", G18 ERXD02 (in) "MAC receive data 2", G19 ERXD03 (in) "MAC receive data 3", G20 RX-ER0 (in) "MAC receive error", H1 D6 (io) "Data bus", H2 D2 (io) "Data bus", H3 D3 (io) "Data bus", H4 D5 (io) "Data bus", H17 TX-ER0 (out) "MAC transmit error", H18 RX-CLK0 (in) "MAC receive clock", H19 RX-DV0 (in) "MAC receive data valid", H20 TX-CLK0 (in) "MAC transmit clock", J1 D8 (io) "Data bus", J3 D7 (io) "Data bus", J17 TX-EN0 (out) "MAC transmit enable", J20 ETXD02 (out) "MAC transmit data 2", K1 D12 (io) "Data bus", K2 D10 (io) "Data bus", K3 D9 (io) "Data bus", K4 D11 (io) "Data bus", K17 ETXD03 (out) "MAC transmit data 3", K18 ETXD01 (out) "MAC transmit data 1", K19 ETXD00 (out) "MAC transmit data 0", K20 COL0 (in) "MAC collision detection", L1 D13 (io) "Data bus", L4 D14 (io) "Data bus", L18 IRQ5 (in) "External interrupt request", L19 CRS0 (in) "MAC carrier detection", M1 D15 (io) "Data bus", M2 CKIO (io) "System clock I/O", M3 RD/~{WR} (out) "Read/write", M4 ~{WE0}(~{BE0})/DQMLL (out) "D7 to D0-select signal/DQM (SDRAM)", M20 TEND1 (out) "DMA transfer end notification 1", N1 ~{WE1}(~{BE1})/DQMLU/~{WE} (out) "D15 to D8-select signal/DQM (SDRAM)/PCMCIA write cycle strobe", N4 ~{CAS} (out) "CAS (SDRAM)", P1 CKE (out) "CK enable (SDRAM)", P3 ~{CS3} (out) "Chip select 3", P4 ~{RAS} (out) "RAS (SDRAM)", R1 ~{CS2} (out) "Chip select 2", R2 A4 (out) "Address bus", R3 A1 (out) "Address bus", T1 A0 (out) "Address bus", T2 A8 (out) "Address bus", T3 A9 (out) "Address bus", T4 A3 (out) "Address bus", U1 A2 (out) "Address bus", U3 A10 (out) "Address bus", U4 A5 (out) "Address bus", U5 D16 (io) "Data bus", U6 D20 (io) "Data bus", U8 D24 (io) "Data bus", U9 D28 (io) "Data bus", U10 D30 (io) "Data bus", U11 A19 (out) "Address bus", U12 A21 (out) "Address bus", U13 A25 (out) "Address bus", U14 PTB1/~{CTS1} (io) "I/O port B/SCIF1 transmit clear", U16 PTB7/~{RTS0} (io) "I/O port B/SCIF0 transmit request", U17 PTA1/TXD0 (io) "I/O port A/SCIF0 transmit data", V1 A6 (out) "Address bus", V2 A11 (out) "Address bus", V3 A7 (out) "Address bus", V5 ~{WE2}(~{BE2})/DQMUL/~{ICIORD} (out) "D23 to D16-select signal/DQM (SDRAM)/PCMCIA I/O read", V6 D18 (io) "Data bus", V7 D22 (io) "Data bus", V9 D26 (io) "Data bus", V12 A23 (out) "Address bus", V14 PTB3/RXD1 (io) "I/O port B/SCIF1 receive data", V15 PTB5/SCIF1CK (io) "I/O port B/SCIF1 serial clock", V16 PTA5/RXD_SIO0 (io) "I/O port A/SIOF0 receive data", V17 PTA6/TXD_SIO0 (io) "I/O port A/SIOF0 transmit data", V18 PTA3/SCK_SIO0 (io) "I/O port A/SIOF0 communication clock", W2 A13 (out) "Address bus", W3 A14 (out) "Address bus", W4 A15 (out) "Address bus", W5 A17 (out) "Address bus", W6 D17 (io) "Data bus", W7 D21 (io) "Data bus", W9 D27 (io) "Data bus", W12 A24 (out) "Address bus", W15 PTA0/RXD0 (io) "I/O port A/SCIF0 receive data", W16 PTA4/SIOMCLK0 (io) "I/O port A/SIOF0 clock input", W18 PTA7/SIOFSYNC0 (io) "I/O port A/SIOF0 frame sync", Y1 A12 (out) "Address bus", Y2 A16 (out) "Address bus", Y3 ~{WE3}(~{BE3})/DQMUU/~{ICIOWR} (out) "D31 to D24-select signal/DQM (SDRAM)/PCMCIA I/O write", Y5 D19 (io) "Data bus", Y7 D23 (io) "Data bus", Y8 D25 (io) "Data bus", Y9 D29 (io) "Data bus", Y10 D31 (io) "Data bus", Y11 A18 (out) "Address bus", Y12 A20 (out) "Address bus", Y13 A22 (out) "Address bus", Y14 PTB0 (io) "I/O port B", Y15 PTB2/~{RTS1} (io) "I/O port B/SCIF1 transmit request", Y16 PTB4/TXD1 (io) "I/O port B/SCIF1 transmit data", Y17 PTB6/~{CTS0} (io) "I/O port B/SCIF0 transmit clear", Y18 PTA2/SCIF0CK (io) "I/O port A/SCIF0 serial clock"
part B pins: A17 ~{TRST} (in) "Test reset", A18 TMS (in) "Test mode select", C16 TDI (in) "Test data input", C17 TDO (out) "Test data output", D16 TCK (in) "Test clock"
part C pins: A20 VCCQ (power) "I/O power supply (3.3V)", B11 VCC (power) "Internal power supply (1.5V)", B19 VCCQ-RTC (power) "RTC oscillator power supply (3.3V)", C3 VCC-PLL1 (power) "PLL1 power supply (1.5V)", C5 VCC-PLL2 (power) "PLL2 power supply (1.5V)", C8 VCC (power) "Internal power supply (1.5V)", C10 VCCQ (power) "I/O power supply (3.3V)", C14 VCCQ (power) "I/O power supply (3.3V)", D2 VCCQ (power) "I/O power supply (3.3V)", D6 VCCQ (power) "I/O power supply (3.3V)", D15 VCC (power) "Internal power supply (1.5V)", D18 VCCQ (power) "I/O power supply (3.3V)", D19 VCCQ (power) "I/O power supply (3.3V)", E1 VCCQ (power) "I/O power supply (3.3V)", E20 VCC (power) "Internal power supply (1.5V)", G2 VCC (power) "Internal power supply (1.5V)", J2 VCCQ (power) "I/O power supply (3.3V)", J18 VCCQ (power) "I/O power supply (3.3V)", L3 VCC (power) "Internal power supply (1.5V)", L17 VCC (power) "Internal power supply (1.5V)", N3 VCCQ (power) "I/O power supply (3.3V)", N18 VCCQ (power) "I/O power supply (3.3V)", P17 VCC (power) "Internal power supply (1.5V)", R4 VCC (power) "Internal power supply (1.5V)", U2 VCCQ (power) "I/O power supply (3.3V)", U15 VCC (power) "Internal power supply (1.5V)", U18 VCCQ (power) "I/O power supply (3.3V)", V4 VCCQ (power) "I/O power supply (3.3V)", V10 VCCQ (power) "I/O power supply (3.3V)", V11 VCC (power) "Internal power supply (1.5V)", V13 VCCQ (power) "I/O power supply (3.3V)", W8 VCC (power) "Internal power supply (1.5V)", W17 VCCQ (power) "I/O power supply (3.3V)", Y6 VCCQ (power) "I/O power supply (3.3V)", Y20 VCCQ (power) "I/O power supply (3.3V)"
part D pins: A15 VSSQ (power) "I/O power supply (0V)", A19 VSSQ-RTC (power) "RTC oscillator power supply (0V)", B1 VSSQ (power) "I/O power supply (0V)", B5 VSS-PLL1 (power) "PLL1 power supply (0V)", B6 VSSQ (power) "I/O power supply (0V)", B7 VSSQ (power) "I/O power supply (0V)", B8 VSS (power) "Internal power supply (0V)", B10 VSSQ (power) "I/O power supply (0V)", B14 VSS (power) "Internal power supply (0V)", B20 VSSQ (power) "I/O power supply (0V)", C4 VSS-PLL2 (power) "PLL2 power supply (0V)", C18 VSSQ (power) "I/O power supply (0V)", C19 VSSQ (power) "I/O power supply (0V)", D11 VSS (power) "Internal power supply (0V)", F4 VSSQ (power) "I/O power supply (0V)", F17 VSS (power) "Internal power supply (0V)", G3 VSS (power) "Internal power supply (0V)", J4 VSSQ (power) "I/O power supply (0V)", J19 VSSQ (power) "I/O power supply (0V)", L2 VSS (power) "Internal power supply (0V)", L20 VSS (power) "Internal power supply (0V)", M17 VSSQ (power) "I/O power supply (0V)", M18 VSSQ (power) "I/O power supply (0V)", N2 VSSQ (power) "I/O power supply (0V)", N17 VSSQ (power) "I/O power supply (0V)", N19 VSS (power) "Internal power supply (0V)", P2 VSS (power) "Internal power supply (0V)", P18 VSSQ (power) "I/O power supply (0V)", P19 VSSQ (power) "I/O power supply (0V)", P20 VSSQ (power) "I/O power supply (0V)", R17 VSSQ (power) "I/O power supply (0V)", R18 VSSQ (power) "I/O power supply (0V)", R20 VSSQ (power) "I/O power supply (0V)", T17 VSSQ (power) "I/O power supply (0V)", T20 VSSQ (power) "I/O power supply (0V)", U7 VSSQ (power) "I/O power supply (0V)", U20 VSSQ (power) "I/O power supply (0V)", V8 VSS (power) "Internal power supply (0V)", V19 VSSQ (power) "I/O power supply (0V)", W1 VSSQ (power) "I/O power supply (0V)", W10 VSSQ (power) "I/O power supply (0V)", W11 VSS (power) "Internal power supply (0V)", W13 VSSQ (power) "I/O power supply (0V)", W14 VSS (power) "Internal power supply (0V)", W19 VSSQ (power) "I/O power supply (0V)", Y4 VSSQ (power) "I/O power supply (0V)", Y19 VSSQ (power) "I/O power supply (0V)"
part E pins: M19 NC "Not Connected", N20 NC "Not Connected", R19 NC "Not Connected", T18 NC "Not Connected", T19 NC "Not Connected", U19 NC "Not Connected", V20 NC "Not Connected", W20 NC "Not Connected"

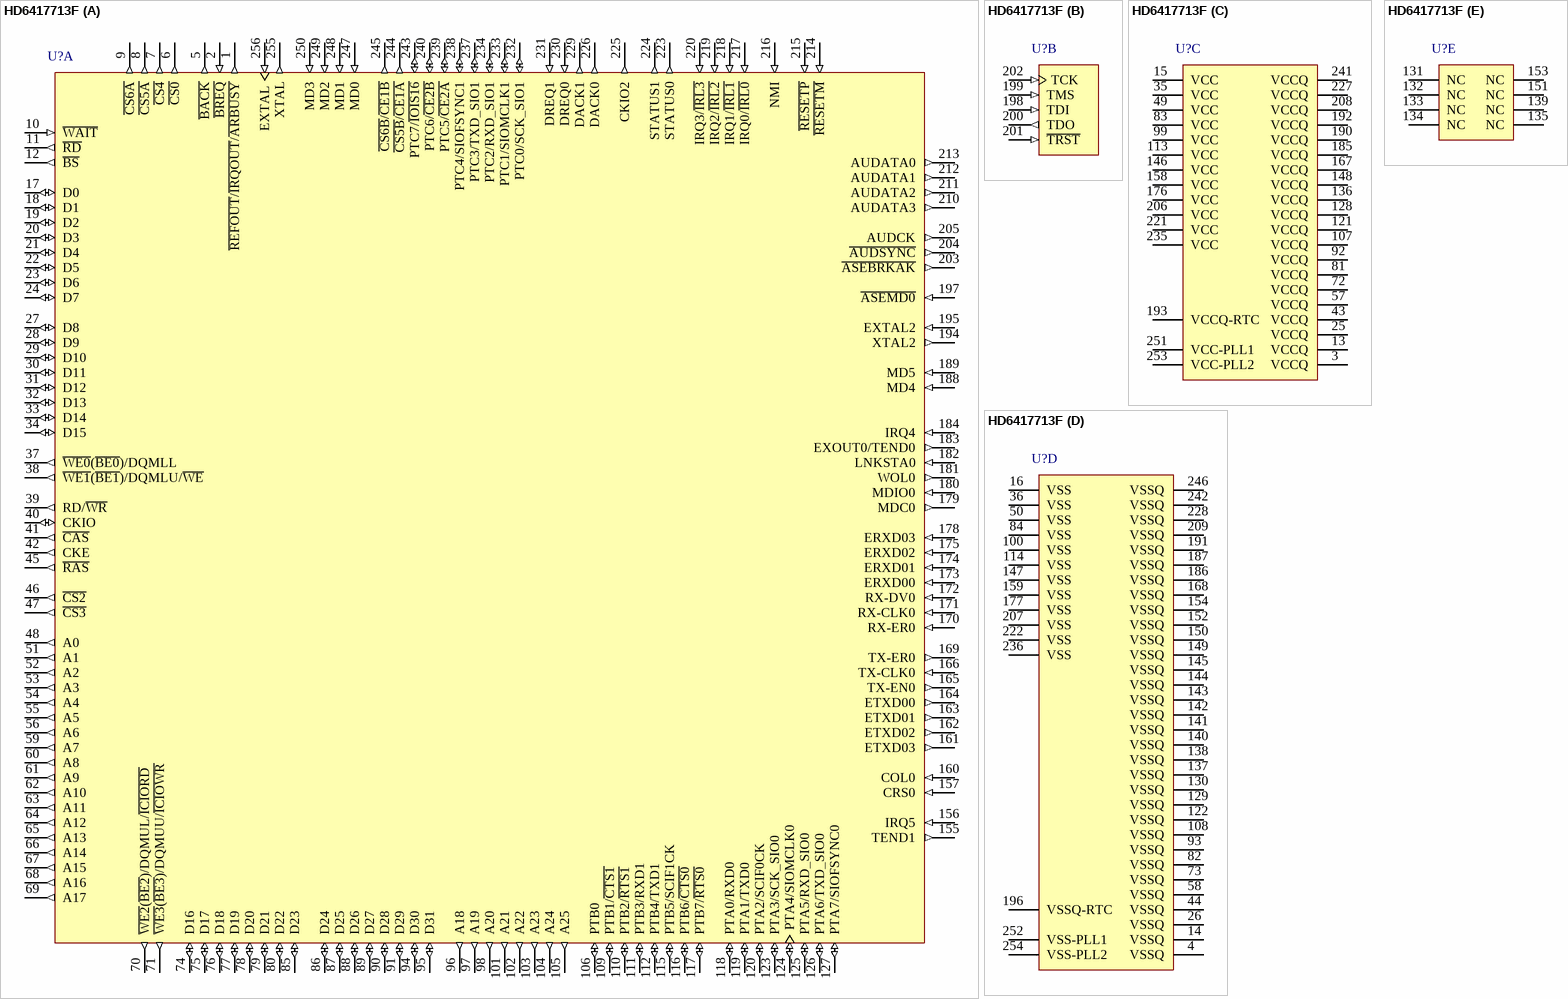
[diagram p49: symbol HD6417713F]

## HD6417713F
designator U?
32-Bit RISC Microcomputer, SH-Ether Series, SH3-DSP core, 200MHz, 16K RAM, 256-pin HQFP, -20 to 75°C; Published: 28-Aug-2009; DatasheetVersion: Rev.1.50, Aug-2006; PackageVersion: Sep-2005; PackageReference: PRQP0256LA-B; Publisher: Altium Limited; PackageDescription: 256-Pin Plastic Quad Flat Pack, 28 x 28 x 3.2 mm Body, 0.4 mm Pitch; Code_JEITA: P-HQFP256-28x28-0.40; ComponentLink1Description: Manufacturer Link; ComponentLink1URL: http://www.renesas.com/fmwk.jsp?cnt=sh7710_root.jsp&fp=/products/mpumcu/superh_family/shether_series/sh7710_group/; ComponentLink2Description: Datasheet; ComponentLink2URL: http://documentation.renesas.com/eng/products/mpumcu/rej09b0288_sh7713hm.pdf; ComponentLink3Description: Packaging Specification; ComponentLink3URL: http://sg.renesas.com/media/products/common_info/package/pdf/ic/code/prqp0256la_b.pdf
footprint PRQP0256LA-B_N (Shrink QFP, 256-Leads, Body 28x28mm, Pitch 0.4mm, IPC Medium Density)
footprint PRQP0256LA-B_L (Shrink QFP, 256-Leads, Body 28x28mm, Pitch 0.4mm, IPC High Density)
footprint PRQP0256LA-B_M (Shrink QFP, 256-Leads, Body 28x28mm, Pitch 0.4mm, IPC Low Density)
part A pins: 1 ~{REFOUT}/~{IRQOUT}/~{ARBUSY} (out) "Bus release request output", 2 ~{BREQ} (in) "Bus request", 5 ~{BACK} (out) "Bus acknowledge", 6 ~{CS0} (out) "Chip select 0", 7 ~{CS4} (out) "Chip select 4", 8 ~{CS5A} (out) "Chip select 5 A", 9 ~{CS6A} (out) "Chip select 6 A", 10 ~{WAIT} (in) "Hardware wait request", 11 ~{RD} (out) "Read strobe", 12 ~{BS} (out) "Bus cycle start signal", 17 D0 (io) "Data bus", 18 D1 (io) "Data bus", 19 D2 (io) "Data bus", 20 D3 (io) "Data bus", 21 D4 (io) "Data bus", 22 D5 (io) "Data bus", 23 D6 (io) "Data bus", 24 D7 (io) "Data bus", 27 D8 (io) "Data bus", 28 D9 (io) "Data bus", 29 D10 (io) "Data bus", 30 D11 (io) "Data bus", 31 D12 (io) "Data bus", 32 D13 (io) "Data bus", 33 D14 (io) "Data bus", 34 D15 (io) "Data bus", 37 ~{WE0}(~{BE0})/DQMLL (out) "D7 to D0-select signal/DQM (SDRAM)", 38 ~{WE1}(~{BE1})/DQMLU/~{WE} (out) "D15 to D8-select signal/DQM (SDRAM)/PCMCIA write cycle strobe", 39 RD/~{WR} (out) "Read/write", 40 CKIO (io) "System clock I/O", 41 ~{CAS} (out) "CAS (SDRAM)", 42 CKE (out) "CK enable (SDRAM)", 45 ~{RAS} (out) "RAS (SDRAM)", 46 ~{CS2} (out) "Chip select 2", 47 ~{CS3} (out) "Chip select 3", 48 A0 (out) "Address bus", 51 A1 (out) "Address bus", 52 A2 (out) "Address bus", 53 A3 (out) "Address bus", 54 A4 (out) "Address bus", 55 A5 (out) "Address bus", 56 A6 (out) "Address bus", 59 A7 (out) "Address bus", 60 A8 (out) "Address bus", 61 A9 (out) "Address bus", 62 A10 (out) "Address bus", 63 A11 (out) "Address bus", 64 A12 (out) "Address bus", 65 A13 (out) "Address bus", 66 A14 (out) "Address bus", 67 A15 (out) "Address bus", 68 A16 (out) "Address bus", 69 A17 (out) "Address bus", 70 ~{WE2}(~{BE2})/DQMUL/~{ICIORD} (out) "D23 to D16-select signal/DQM (SDRAM)/PCMCIA I/O read", 71 ~{WE3}(~{BE3})/DQMUU/~{ICIOWR} (out) "D31 to D24-select signal/DQM (SDRAM)/PCMCIA I/O write", 74 D16 (io) "Data bus", 75 D17 (io) "Data bus", 76 D18 (io) "Data bus", 77 D19 (io) "Data bus", 78 D20 (io) "Data bus", 79 D21 (io) "Data bus", 80 D22 (io) "Data bus", 85 D23 (io) "Data bus", 86 D24 (io) "Data bus", 87 D25 (io) "Data bus", 88 D26 (io) "Data bus", 89 D27 (io) "Data bus", 90 D28 (io) "Data bus", 91 D29 (io) "Data bus", 94 D30 (io) "Data bus", 95 D31 (io) "Data bus", 96 A18 (out) "Address bus", 97 A19 (out) "Address bus", 98 A20 (out) "Address bus", 101 A21 (out) "Address bus", 102 A22 (out) "Address bus", 103 A23 (out) "Address bus", 104 A24 (out) "Address bus", 105 A25 (out) "Address bus", 106 PTB0 (io) "I/O port B", 109 PTB1/~{CTS1} (io) "I/O port B/SCIF1 transmit clear", 110 PTB2/~{RTS1} (io) "I/O port B/SCIF1 transmit request", 111 PTB3/RXD1 (io) "I/O port B/SCIF1 receive data", 112 PTB4/TXD1 (io) "I/O port B/SCIF1 transmit data", 115 PTB5/SCIF1CK (io) "I/O port B/SCIF1 serial clock", 116 PTB6/~{CTS0} (io) "I/O port B/SCIF0 transmit clear", 117 PTB7/~{RTS0} (io) "I/O port B/SCIF0 transmit request", 118 PTA0/RXD0 (io) "I/O port A/SCIF0 receive data", 119 PTA1/TXD0 (io) "I/O port A/SCIF0 transmit data", 120 PTA2/SCIF0CK (io) "I/O port A/SCIF0 serial clock", 123 PTA3/SCK_SIO0 (io) "I/O port A/SIOF0 communication clock", 124 PTA4/SIOMCLK0 (io) "I/O port A/SIOF0 clock input", 125 PTA5/RXD_SIO0 (io) "I/O port A/SIOF0 receive data", 126 PTA6/TXD_SIO0 (io) "I/O port A/SIOF0 transmit data", 127 PTA7/SIOFSYNC0 (io) "I/O port A/SIOF0 frame sync", 155 TEND1 (out) "DMA transfer end notification 1", 156 IRQ5 (in) "External interrupt request", 157 CRS0 (in) "MAC carrier detection", 160 COL0 (in) "MAC collision detection", 161 ETXD03 (out) "MAC transmit data 3", 162 ETXD02 (out) "MAC transmit data 2", 163 ETXD01 (out) "MAC transmit data 1", 164 ETXD00 (out) "MAC transmit data 0", 165 TX-EN0 (out) "MAC transmit enable", 166 TX-CLK0 (in) "MAC transmit clock", 169 TX-ER0 (out) "MAC transmit error", 170 RX-ER0 (in) "MAC receive error", 171 RX-CLK0 (in) "MAC receive clock", 172 RX-DV0 (in) "MAC receive data valid", 173 ERXD00 (in) "MAC receive data 0", 174 ERXD01 (in) "MAC receive data 1", 175 ERXD02 (in) "MAC receive data 2", 178 ERXD03 (in) "MAC receive data 3", 179 MDC0 (out) "MAC management data clock", 180 MDIO0 (in) "MAC management data I/O", 181 WOL0 (out) "MAC Wake-On-LAN", 182 LNKSTA0 (in) "MAC link status", 183 EXOUT0/TEND0 (out) "MAC general-purpose external output/DMA transfer end notification 0", 184 IRQ4 (in) "External interrupt request", 188 MD4 (in) "Specifies area 0 bus width", 189 MD5 (in) "Endian select", 194 XTAL2 (out) "On-chip RTC crystal oscillator pin", 195 EXTAL2 (in) "On-chip RTC crystal oscillator pin", 197 ~{ASEMD0} (in) "ASE mode", 203 ~{ASEBRKAK} (out) "ASE break acknowledge", 204 ~{AUDSYNC} (out) "AUD synchronous", 205 AUDCK (out) "AUD clock", 210 AUDATA3 (out) "AUD data", 211 AUDATA2 (out) "AUD data", 212 AUDATA1 (out) "AUD data", 213 AUDATA0 (out) "AUD data", 214 ~{RESETM} (in) "Manual reset request", 215 ~{RESETP} (in) "Power-on reset request", 216 NMI (in) "Non-maskable interrupt request", 217 IRQ0/~{IRL0} (in) "External interrupt request", 218 IRQ1/~{IRL1} (in) "External interrupt request", 219 IRQ2/~{IRL2} (in) "External interrupt request", 220 IRQ3/~{IRL3} (in) "External interrupt request", 223 STATUS0 (out) "Processor status", 224 STATUS1 (out) "Processor status", 225 CKIO2 (out) "System clock output", 226 DACK0 (out) "DMA acknowledge 0", 229 DACK1 (out) "DMA acknowledge 1", 230 DREQ0 (in) "DMA request 0", 231 DREQ1 (in) "DMA request 1", 232 PTC0/SCK_SIO1 (io) "I/O port C/SIOF1 communication clock", 233 PTC1/SIOMCLK1 (io) "I/O port C/SIOF1 clock input", 234 PTC2/RXD_SIO1 (io) "I/O port C/SIOF1 receive data", 237 PTC3/TXD_SIO1 (io) "I/O port C/SIOF1 transmit data", 238 PTC4/SIOFSYNC1 (io) "I/O port C/SIOF1 frame sync", 239 PTC5/~{CE2A} (io) "I/O port C/area 5 PCMCIA card enable", 240 PTC6/~{CE2B} (io) "I/O port C/area 6 PCMCIA card enable", 243 PTC7/~{IOIS16} (io) "I/O port C/PCMCIA 16-bit I/O select", 244 ~{CS5B}/~{CE1A} (out) "Chip select 5B/area 5 PCMCIA card enable", 245 ~{CS6B}/~{CE1B} (out) "Chip select 6B/area 6 PCMCIA card enable", 247 MD0 (in) "Clock mode select", 248 MD1 (in) "Clock mode select", 249 MD2 (in) "Clock mode select", 250 MD3 (in) "Area 0 bus width", 255 XTAL (out) "Clock oscillator pin", 256 EXTAL (in) "External clock/crystal oscillator pin"
part B pins: 198 TDI (in) "Test data input", 199 TMS (in) "Test mode select", 200 TDO (out) "Test data output", 201 ~{TRST} (in) "Test reset", 202 TCK (in) "Test clock"
part C pins: 3 VCCQ (power) "I/O power supply (3.3V)", 13 VCCQ (power) "I/O power supply (3.3V)", 15 VCC (power) "Internal power supply (1.5V)", 25 VCCQ (power) "I/O power supply (3.3V)", 35 VCC (power) "Internal power supply (1.5V)", 43 VCCQ (power) "I/O power supply (3.3V)", 49 VCC (power) "Internal power supply (1.5V)", 57 VCCQ (power) "I/O power supply (3.3V)", 72 VCCQ (power) "I/O power supply (3.3V)", 81 VCCQ (power) "I/O power supply (3.3V)", 83 VCC (power) "Internal power supply (1.5V)", 92 VCCQ (power) "I/O power supply (3.3V)", 99 VCC (power) "Internal power supply (1.5V)", 107 VCCQ (power) "I/O power supply (3.3V)", 113 VCC (power) "Internal power supply (1.5V)", 121 VCCQ (power) "I/O power supply (3.3V)", 128 VCCQ (power) "I/O power supply (3.3V)", 136 VCCQ (power) "I/O power supply (3.3V)", 146 VCC (power) "Internal power supply (1.5V)", 148 VCCQ (power) "I/O power supply (3.3V)", 158 VCC (power) "Internal power supply (1.5V)", 167 VCCQ (power) "I/O power supply (3.3V)", 176 VCC (power) "Internal power supply (1.5V)", 185 VCCQ (power) "I/O power supply (3.3V)", 190 VCCQ (power) "I/O power supply (3.3V)", 192 VCCQ (power) "I/O power supply (3.3V)", 193 VCCQ-RTC (power) "RTC oscillator power supply (3.3V)", 206 VCC (power) "Internal power supply (1.5V)", 208 VCCQ (power) "I/O power supply (3.3V)", 221 VCC (power) "Internal power supply (1.5V)", 227 VCCQ (power) "I/O power supply (3.3V)", 235 VCC (power) "Internal power supply (1.5V)", 241 VCCQ (power) "I/O power supply (3.3V)", 251 VCC-PLL1 (power) "PLL1 power supply (1.5V)", 253 VCC-PLL2 (power) "PLL2 power supply (1.5V)"
part D pins: 4 VSSQ (power) "I/O power supply (0V)", 14 VSSQ (power) "I/O power supply (0V)", 16 VSS (power) "Internal power supply (0V)", 26 VSSQ (power) "I/O power supply (0V)", 36 VSS (power) "Internal power supply (0V)", 44 VSSQ (power) "I/O power supply (0V)", 50 VSS (power) "Internal power supply (0V)", 58 VSSQ (power) "I/O power supply (0V)", 73 VSSQ (power) "I/O power supply (0V)", 82 VSSQ (power) "I/O power supply (0V)", 84 VSS (power) "Internal power supply (0V)", 93 VSSQ (power) "I/O power supply (0V)", 100 VSS (power) "Internal power supply (0V)", 108 VSSQ (power) "I/O power supply (0V)", 114 VSS (power) "Internal power supply (0V)", 122 VSSQ (power) "I/O power supply (0V)", 129 VSSQ (power) "I/O power supply (0V)", 130 VSSQ (power) "I/O power supply (0V)", 137 VSSQ (power) "I/O power supply (0V)", 138 VSSQ (power) "I/O power supply (0V)", 140 VSSQ (power) "I/O power supply (0V)", 141 VSSQ (power) "I/O power supply (0V)", 142 VSSQ (power) "I/O power supply (0V)", 143 VSSQ (power) "I/O power supply (0V)", 144 VSSQ (power) "I/O power supply (0V)", 145 VSSQ (power) "I/O power supply (0V)", 147 VSS (power) "Internal power supply (0V)", 149 VSSQ (power) "I/O power supply (0V)", 150 VSSQ (power) "I/O power supply (0V)", 152 VSSQ (power) "I/O power supply (0V)", 154 VSSQ (power) "I/O power supply (0V)", 159 VSS (power) "Internal power supply (0V)", 168 VSSQ (power) "I/O power supply (0V)", 177 VSS (power) "Internal power supply (0V)", 186 VSSQ (power) "I/O power supply (0V)", 187 VSSQ (power) "I/O power supply (0V)", 191 VSSQ (power) "I/O power supply (0V)", 196 VSSQ-RTC (power) "RTC oscillator power supply (0V)", 207 VSS (power) "Internal power supply (0V)", 209 VSSQ (power) "I/O power supply (0V)", 222 VSS (power) "Internal power supply (0V)", 228 VSSQ (power) "I/O power supply (0V)", 236 VSS (power) "Internal power supply (0V)", 242 VSSQ (power) "I/O power supply (0V)", 246 VSSQ (power) "I/O power supply (0V)", 252 VSS-PLL1 (power) "PLL1 power supply (0V)", 254 VSS-PLL2 (power) "PLL2 power supply (0V)"
part E pins: 131 NC "Not Connected", 132 NC "Not Connected", 133 NC "Not Connected", 134 NC "Not Connected", 135 NC "Not Connected", 139 NC "Not Connected", 151 NC "Not Connected", 153 NC "Not Connected"

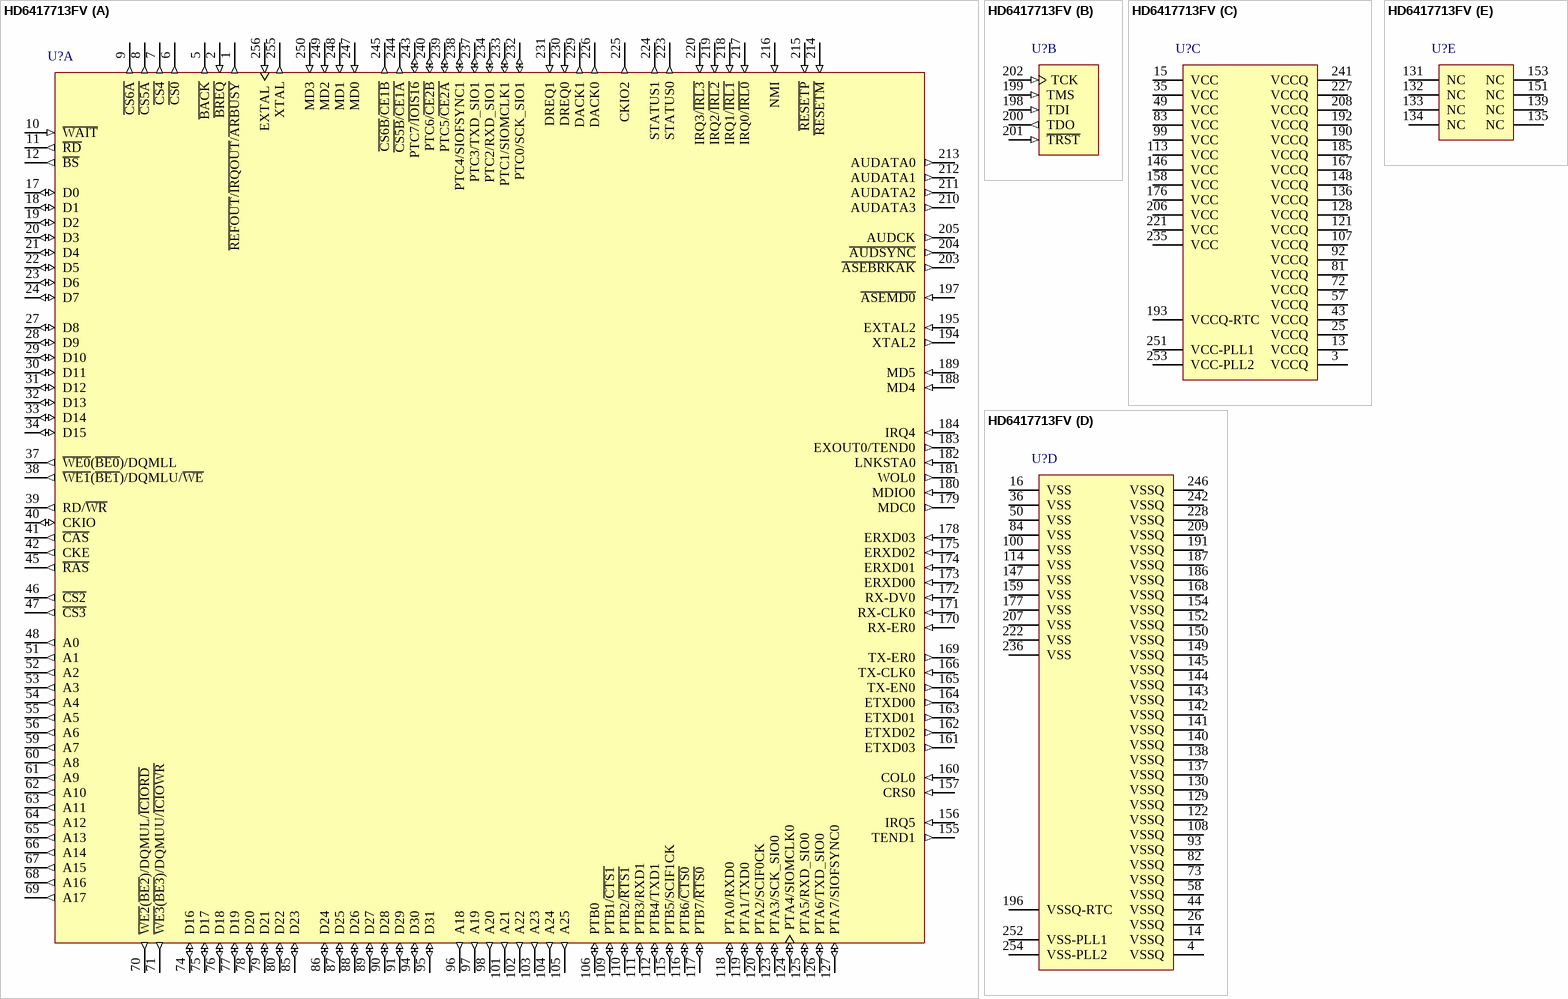
[diagram p50: symbol HD6417713FV]